# EAGLE library part PIC-ICSP (library SparkFun)
ISCP Programming connector for UAV, UBW Kit, etc.
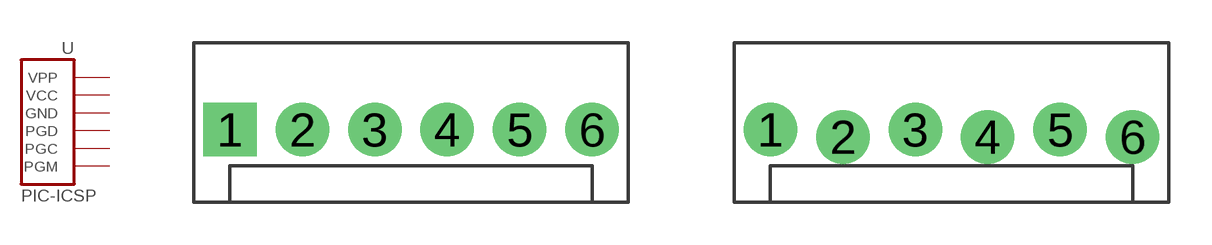
[diagram p158: symbol with the pads of MOLEX-1X6; footprints MOLEX-1X6, MOLEX-1X6_LOCK]

Designator prefix -

## PIC-ICSPPTH  [MOLEX-1X6]
1  PGM
2  PGC
3  PGD
4  GND
5  VCC
6  VPP

## PIC-ICSPPOLAR_LOCK  [MOLEX-1X6_LOCK]
Pads as for MOLEX-1X6

## Footprint MOLEX-1X6 (pad centres in mm)
drill 1.016 pad 1.88 square: 1 0,0
drill 1.016 pad 1.88 round: 2 2.54,0; 3 5.08,0; 4 7.62,0; 5 10.16,0; 6 12.7,0

## Footprint MOLEX-1X6_LOCK (pad centres in mm)
This footprint was designed to help hold the alignment of a through-hole component (i.e. 6-pin header) while soldering it into place. You may notice that each hole has been shifted either up or down by 0.005 of an inch from it's more standard position (which is a perfectly straight line). This slight alteration caused the pins (the squares in the middle) to touch the edges of the holes. Because they are alternating, it causes a "brace" to hold the component in place. 0.005 has proven to be the perfect amount of "off-center" position when using our standard breakaway headers. Although looks a little odd when you look at the bare footprint, once you have a header in there, the alteration is very hard to notice. Also, if you push a header all the way into place, it is covered up entirely on the bottom side. This idea of altering the position of holes to aid alignment will be further integrated into the Sparkfun Library for other footprints. It can help hold any component with 3 or more connection pins.
drill 1.016 pad 1.88 round: 1 0,0; 2 2.54,-0.254; 3 5.08,0; 4 7.62,-0.254; 5 10.16,0; 6 12.7,-0.254